# Altium footprint library PCB - FUSE - KEYSTONE 3568.PCBLIB: 4 footprints
Each footprint in its own frame and in the unit in brackets; x right, y up, seen from the top. Pads: shape width x height; smd on the part's side, far side on the other; paste and mask are expansions set on the pad; w line width, h text height; cw(c..) or ccw(c..) is an arc to the next point about the centre after c.
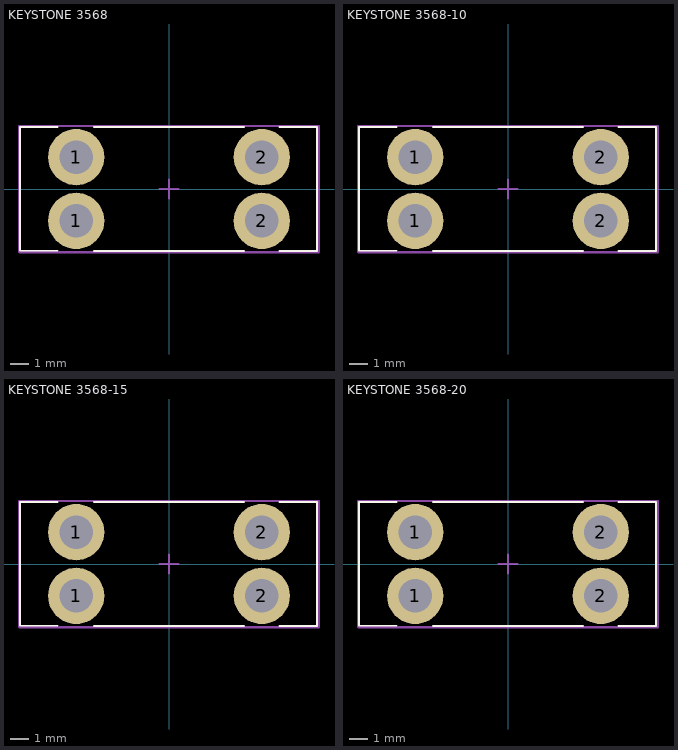
[diagram p0: the footprints below, top view; thin cyan lines are the x and y axes]

## KEYSTONE 3568 [mm] "MINI PC AUTO-FUSE HOLDER"
height 7.37
pads (4):
  round 3 hole 1.8: 1(-4.95,-1.7) 1(-4.95,1.7) 2(4.95,-1.7) 2(4.95,1.7)
Top Overlay:
  lines w0.1: -5.937,-3.292 -7.937,-3.292 -7.937,3.308 -5.937,3.308 ; -4,-3.3 4,-3.3 ; -4,3.3 4,3.3 ; 5.9,-3.3 7.9,-3.3 7.9,3.3 5.9,3.3
Mechanical 13:
  lines w0.1: -8,-3.365 8,-3.365 8,3.365 -8,3.365 -8,-3.365
Mechanical 15:
  lines w0.05: -8,-3.4 8,-3.4 8,3.4 -8,3.4 -8,-3.4
  lines w0.1: -0.5,0 0.5,0 ; 0,-0.5 0,0.5
3D body "Keystone - 3568.step": height 7.37, standoff -2.79, extent -8.026,-3.365 7.976,3.366

## KEYSTONE 3568-10 [mm] "MINI PC AUTO-FUSE HOLDER"
height 7.37
pads (4):
  round 3 hole 1.8: 1(-4.95,-1.7) 1(-4.95,1.7) 2(4.95,-1.7) 2(4.95,1.7)
Top Overlay:
  lines w0.1: -5.937,-3.292 -7.937,-3.292 -7.937,3.308 -5.937,3.308 ; -4,-3.3 4,-3.3 ; -4,3.3 4,3.3 ; 5.9,-3.3 7.9,-3.3 7.9,3.3 5.9,3.3
Mechanical 13:
  lines w0.1: -8,-3.365 -8,3.365 8,3.365 8,-3.365 -8,-3.365
Mechanical 15:
  lines w0.05: -8,-3.4 -8,3.4 8,3.4 8,-3.4 -8,-3.4
  lines w0.1: -0.5,0 0.5,0 ; 0,-0.5 0,0.5
3D body "keystone-PN3568-10.STEP": height 7.46, standoff -2.7, extent -8.001,-3.361 8.001,3.37

## KEYSTONE 3568-15 [mm] "MINI PC AUTO-FUSE HOLDER"
height 7.37
pads (4):
  round 3 hole 1.8: 1(-4.95,-1.7) 1(-4.95,1.7) 2(4.95,-1.7) 2(4.95,1.7)
Top Overlay:
  lines w0.1: -5.937,-3.292 -7.937,-3.292 -7.937,3.308 -5.937,3.308 ; -4,-3.3 4,-3.3 ; -4,3.3 4,3.3 ; 5.9,-3.3 7.9,-3.3 7.9,3.3 5.9,3.3
Mechanical 13:
  lines w0.1: -8,-3.365 -8,3.365 8,3.365 8,-3.365 -8,-3.365
Mechanical 15:
  lines w0.05: -8,-3.4 -8,3.4 8,3.4 8,-3.4 -8,-3.4
  lines w0.1: -0.5,0 0.5,0 ; 0,-0.5 0,0.5
3D body "keystone-PN3568-15.STEP": height 7.46, standoff -2.7, extent -8.001,-3.361 8.001,3.37

## KEYSTONE 3568-20 [mm] "MINI PC AUTO-FUSE HOLDER"
height 7.37
pads (4):
  round 3 hole 1.8: 1(-4.95,-1.7) 1(-4.95,1.7) 2(4.95,-1.7) 2(4.95,1.7)
Top Overlay:
  lines w0.1: -5.937,-3.292 -7.937,-3.292 -7.937,3.308 -5.937,3.308 ; -4,-3.3 4,-3.3 ; -4,3.3 4,3.3 ; 5.9,-3.3 7.9,-3.3 7.9,3.3 5.9,3.3
Mechanical 13:
  lines w0.1: -8,-3.365 -8,3.365 8,3.365 8,-3.365 -8,-3.365
Mechanical 15:
  lines w0.05: -8,-3.4 -8,3.4 8,3.4 8,-3.4 -8,-3.4
  lines w0.1: -0.5,0 0.5,0 ; 0,-0.5 0,0.5
3D body "keystone-PN3568-20.STEP": height 7.46, standoff -2.7, extent -8.001,-3.361 8.001,3.37